# EAGLE library part USB-MINIB-WSHIELD (library aq_pcb_v2)
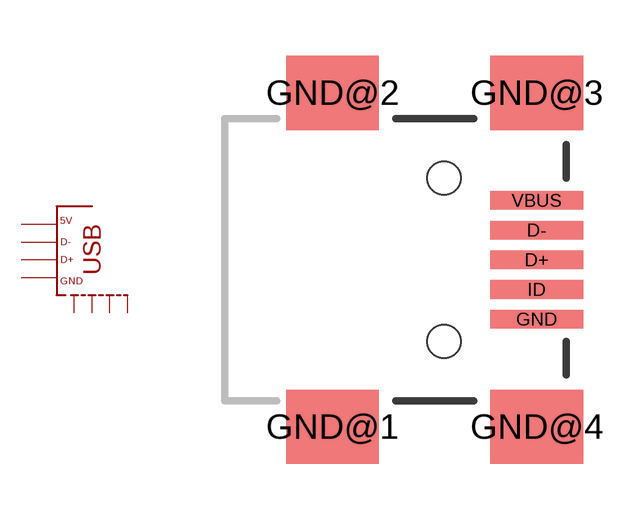
[diagram p11: symbol with the pads of USB-MINIB; footprint USB-MINIB]

Designator prefix -

## USB-MINIB-WSHIELD  [USB-MINIB]
D+  D+
D-  D-
GND  GND  pwr
GND@1  SHIELD  pas
GND@2  SHIELD  pas
GND@3  SHIELD  pas
GND@4  SHIELD  pas
VBUS  V+  pwr

## Footprint USB-MINIB (pad centres in mm)
USB Series Mini-B Surface Mounted
smd 2.5 x 0.5: D+ 2.5,0; D- 2.5,0.8; GND 2.5,-1.6; ID 2.5,-0.8; VBUS 2.5,1.6
smd 2.5 x 2: GND@1 -3,-4.5; GND@2 -3,4.5; GND@3 2.5,4.5; GND@4 2.5,-4.5
hole 0.9 at 0,2.2
hole 0.9 at 0,-2.2